# Altium footprint library MSOP8.PcbLib: 1 footprints
Each footprint in its own frame and in the unit in brackets; x right, y up, seen from the top. Pads: shape width x height; smd on the part's side, far side on the other; paste and mask are expansions set on the pad; w line width, h text height; cw(c..) or ccw(c..) is an arc to the next point about the centre after c.
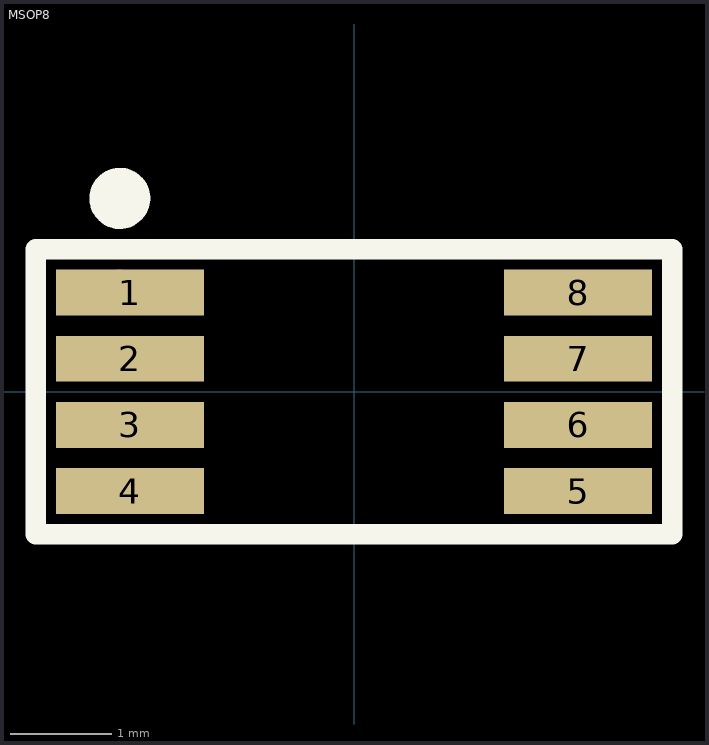
[diagram p0: the footprint, top view; thin cyan lines are the x and y axes]

## MSOP8 [mm]
pads (8):
  rect 1.45x0.45 smd: 1(-2.2,0.975) 2(-2.2,0.325) 3(-2.2,-0.325) 4(-2.2,-0.975) 5(2.2,-0.975) 6(2.2,-0.325) 7(2.2,0.325) 8(2.2,0.975)
Top Overlay:
  circle w0.3: c-2.3,1.9 r0.15
  lines w0.2: -3.125,-1.4 3.125,-1.4 3.125,1.4 -3.125,1.4 -3.125,-1.4
Top Assembly:
  circle w0.2: c-2.3,1 r0.1
  lines w0.1: -3.125,-1.4 3.125,-1.4 3.125,1.4 -3.125,1.4 -3.125,-1.4
  text "'.Designator'" at -0.9,-0.35 h0.7
3D body "User Library-MSOP8.step": height 1.1, standoff 0, extent -2.469,-1.55 2.469,1.55